# Altium footprint library smd push button.PcbLib: 1 footprints
Each footprint in its own frame and in the unit in brackets; x right, y up, seen from the top. Pads: shape width x height; smd on the part's side, far side on the other; paste and mask are expansions set on the pad; w line width, h text height; cw(c..) or ccw(c..) is an arc to the next point about the centre after c.
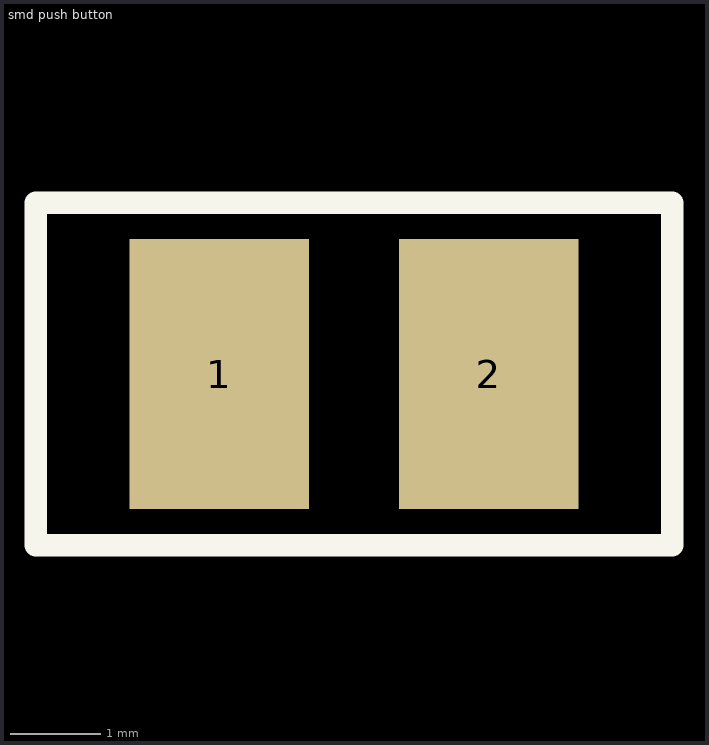
[diagram p0: the footprint, top view; thin cyan lines are the x and y axes]

## smd push button [mm]
pads (2):
  rect 2x3 smd: 1(-1271.5,-1270) 2(-1268.5,-1270)
Top Overlay:
  lines w0.254: -1273.54,-1271.905 -1266.46,-1271.905 -1266.46,-1268.095 -1273.54,-1268.095 -1273.54,-1270 -1273.54,-1271.905